# EAGLE library part 691256610009 (library Wurth_Connectors_WR-TBL Rising Cage Clamp)
WR-TBL Serie 2566 - 10.16 mm Horizontal Entry w. Rising Cage Clamp Glow Wire KIND PROPERTIES Pitch 10.16 mm MATERIAL PROPERTIES Insulator Material PA66G25 Insulator Flammability Rating UL94 V-0 Insulator Color Grey Contact Material Steel Contact Plating Zinc Terminal Screw Material Steel Terminal Screw Plating Zinc Wire Guard Material Copper Alloy with Tin over Nickel GENERAL INFORMATION Operating Temperature -30 up to +120 °C Compliance Lead free / RoHS ELECTRICAL PROPERTIES IR UL 40 A IR VDE 57 A Working Voltage [UL] 300 V (AC) Working Voltage [VDE] 750 V (AC) Withstanding Voltage [UL] 1600 V (AC) Withstanding Voltage [VDE] 3000 V (AC) Contact Resistance 20 mΩ MECHANICAL PROPERTIES Wire Strip Length 12 (mm) Screw M4 CERTIFICATION UL Approval E150931; E150931 Cat No. MRT26 (1) VDE Approval 40022112 VDE Approval 40022112 Type MRT26 PACKAGING PROPERTIES Packaging Box <https://www.we-online.com/catalog/media/o84255v209%20Family_WR-TBL2_6912566100xx.jpg> Details see: https://www.we-online.com/catalog/en/TBL_10_16_2566_HORIZONTAL_ENTRY_W_RISING_CAGE_CLAMP_GLOW_WIRE_6912566100xx/ Updated by Ella Wu 2019-12-06 2019(C) Wurth Elektronik
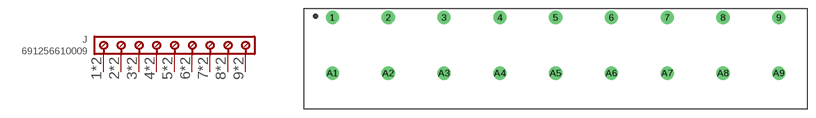
[diagram p155: symbol with the pads of 691256610009; footprint 691256610009]

Designator prefix J

## 691256610009 (IR-UL: 40A; IR-VDE: 57A; PART-NUMBER: 691256610009; PINS: 9; PITCH: 10.16mm; TYPE: Horizontal; WIRE: 6 to 20 (AWG) 13.30 to 0.52 (mm²); WORKING-VOLTAGE-UL: 300V (AC); WORKING-VOLTAGE-VDE: 750V (AC))  [691256610009]
1  1  pas
2  2  pas
3  3  pas
4  4  pas
5  5  pas
6  6  pas
7  7  pas
8  8  pas
9  9  pas
A1  1  pas
A2  2  pas
A3  3  pas
A4  4  pas
A5  5  pas
A6  6  pas
A7  7  pas
A8  8  pas
A9  9  pas

## Footprint 691256610009 (pad centres in mm)
WR-TBL Serie 2566 - 10.16 mm Horizontal Entry w. Rising Cage Clamp Glow Wire Max Height =29.3mm , Pitch 10.16mm , 9 Pins
drill 1.6: 1 -40.64,5.08; 2 -30.48,5.08; 3 -20.32,5.08; 4 -10.16,5.08; 5 0,5.08; 6 10.16,5.08; 7 20.32,5.08; 8 30.48,5.08; 9 40.64,5.08; A1 -40.64,-5.08; A2 -30.48,-5.08; A3 -20.32,-5.08; A4 -10.16,-5.08; A5 0,-5.08; A6 10.16,-5.08; A7 20.32,-5.08; A8 30.48,-5.08; A9 40.64,-5.08